# Altium schematic symbol library TSOP4838.SchLib: 1 symbol
Pins are listed as number, name and electrical type; pins without a type are passive.

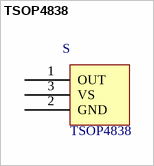
[diagram p0: symbol TSOP4838]

## TSOP4838
designator S  value TSOP4838  (hidden comment: *)
Manufacturer: VISHAY; Carrier Frequency: 38 KHz; Farnell Code: 4913190; Manufacturer Code: TSOP4838; Unit Price: 1,24 €
footprint TSOP4838_180Deg
footprint TSOP4838_90Deg
pins: 1 OUT, 2 GND, 3 VS